# Altium schematic symbol library Schlib1.SchLib: 1 symbol
Pins are listed as number, name and electrical type; pins without a type are passive.

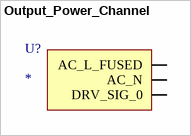
[diagram p0: symbol Output_Power_Channel]

## Output_Power_Channel
designator U?
pins: AC_L_FUSED (io), AC_N (io), DRV_SIG_0 (io)